# EAGLE library part WILC1000-MR110 (library atmel-smartconnect)
IEEE 802.11 b/g/n Link Controller SoC
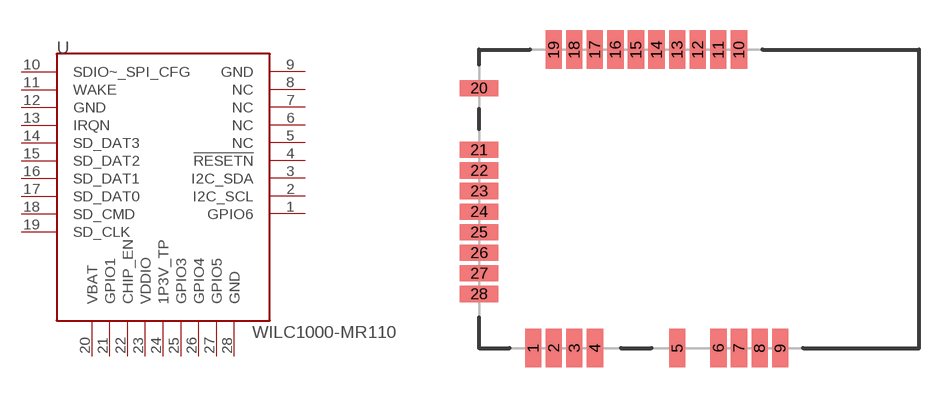
[diagram p1: symbol with the pads of WILC1000-MR110; footprint WILC1000-MR110]

Designator prefix -

## WILC1000-MR110  [WILC1000-MR110]
1  GPIO6
2  I2C_SCL
3  I2C_SDA
4  !RESETN  in
5  NC  nc
6  NC  nc
7  NC  nc
8  NC  nc
9  GND  pwr
10  SDIO~_SPI_CFG  in
11  WAKE  in
12  GND  pwr
13  IRQN  out
14  SD_DAT3
15  SD_DAT2
16  SD_DAT1
17  SD_DAT0
18  SD_CMD
19  SD_CLK  in
20  VBAT  pwr
21  GPIO1
22  CHIP_EN  in
23  VDDIO  pwr
24  1P3V_TP  pwr
25  GPIO3
26  GPIO4
27  GPIO5
28  GND  pwr

## Footprint WILC1000-MR110 (pad centres in mm)
smd 0.8 x 1.9: 1 -8.19,-7.365; 2 -7.174,-7.365; 3 -6.158,-7.365; 4 -5.142,-7.365; 5 -1.078,-7.365; 6 0.954,-7.365; 7 1.97,-7.365; 8 2.986,-7.365; 9 4.002,-7.365; 10 1.964,7.365; 11 0.948,7.365; 12 -0.068,7.365; 13 -1.084,7.365; 14 -2.1,7.365; 15 -3.116,7.365; 16 -4.132,7.365; 17 -5.148,7.365; 18 -6.164,7.365; 19 -7.18,7.365
smd 1.9 x 0.8: 20 -10.86,5.465; 21 -10.86,2.417; 22 -10.86,1.401; 23 -10.86,0.385; 24 -10.86,-0.631; 25 -10.86,-1.647; 26 -10.86,-2.663; 27 -10.86,-3.679; 28 -10.86,-4.695